# EAGLE library part SN75451 (library 000001)
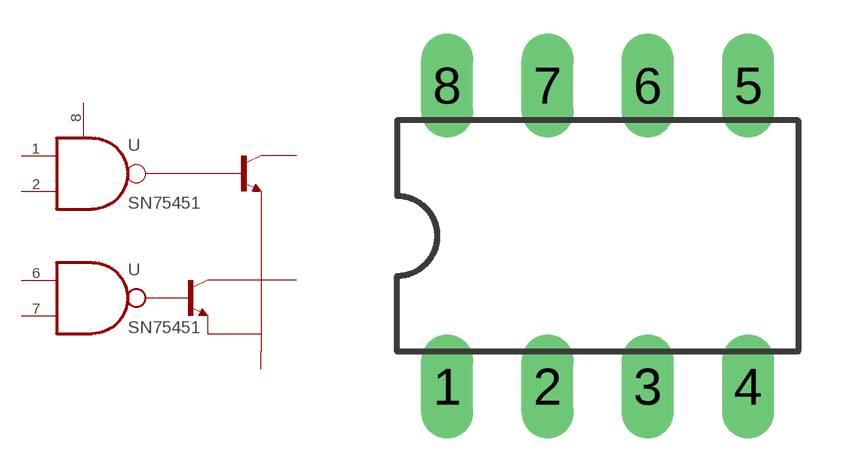
[diagram p83: symbol with the pads of DIL08; footprint DIL08]

Designator prefix -

## SN75451P  [DIL08]
1  1A  in
2  1B  in
3  1Y  pas
4  GND  pas
5  2Y  pas
6  2A  in
7  2B  in
8  VCC  in

## Footprint DIL08 (pad centres in mm)
Dual In Line Package
drill 0.813 long: 1 -3.81,-3.81; 2 -1.27,-3.81; 3 1.27,-3.81; 4 3.81,-3.81; 5 3.81,3.81; 6 1.27,3.81; 7 -1.27,3.81; 8 -3.81,3.81